# Altium schematic symbol library DF06S.Schlib: 1 symbol
Pins are listed as number, name and electrical type; pins without a type are passive.

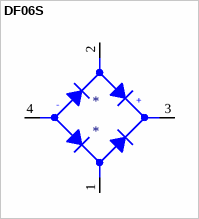
[diagram p0: symbol DF06S]

## DF06S
designator *
Surface Mount Bridge Rectifier, 1A
pins: 1 AC IN 1, 2 AC IN 2, 3 DC OUT PLUS, 4 DC OUT MINUS
text: -; +